# Altium footprint library IC_all.PcbLib: 21 footprints (part 1 of 2)
Each footprint in its own frame and in the unit in brackets; x right, y up, seen from the top. Pads: shape width x height; smd on the part's side, far side on the other; paste and mask are expansions set on the pad; w line width, h text height; cw(c..) or ccw(c..) is an arc to the next point about the centre after c.
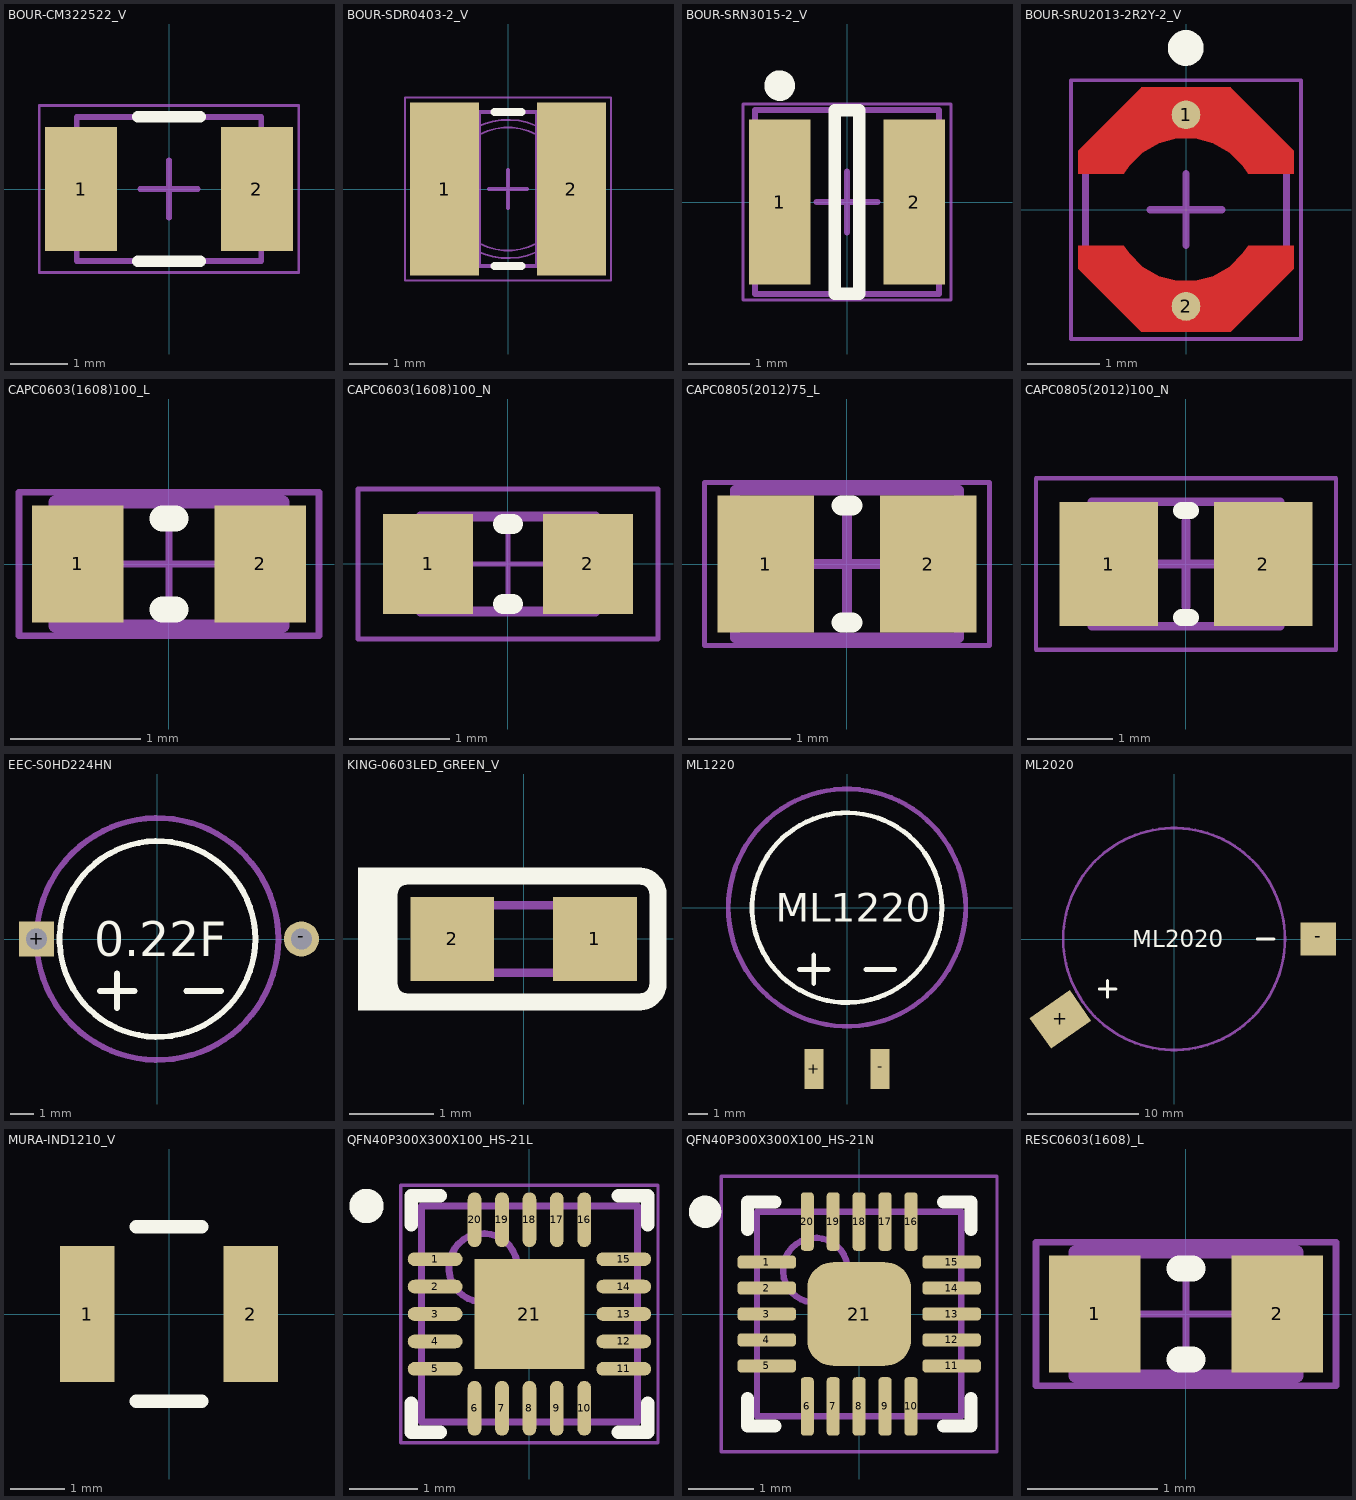
[diagram p0: the footprints below, top view; thin cyan lines are the x and y axes]

## BOUR-CM322522_V [mm] "Inductor, 2-Leads, Body 3.2x2.5mm, Pitch 3.05mm"
height 2.4
pads (2):
  rect 1.25x2.15 smd: 1(-1.525,0) 2(1.525,0)
Top Overlay:
  lines w0.2: -0.54,-1.25 0.54,-1.25 ; -0.54,1.25 0.54,1.25
Mechanical 13:
  lines w0.1: -1.6,-1.25 -1.6,1.25 1.6,1.25 1.6,-1.25 -1.6,-1.25
Mechanical 15:
  lines w0.05: -2.25,-1.45 -2.25,1.45 2.25,1.45 2.25,-1.45 -2.25,-1.45
  lines w0.1: -0.5,0 0.5,0 ; 0,-0.5 0,0.5
3D body "INDM2925X24L.step": height 2.4, standoff 0, extent -1.77,-1.35 1.77,1.35

## BOUR-SDR0403-2_V [mm] "SMD, 2-Leads, Dia 4.5mm, Height 3.5mm"
height 3.5
pads (2):
  rect 1.8x4.5 smd: 1(-1.65,0) 2(1.65,0)
Top Overlay:
  lines w0.2: -0.35,-2 0.35,-2 ; -0.35,2 0.35,2
Mechanical 13:
  circle w0.05: c0,0 r1.6
  circle w0.05: c0,0 r1.8
  lines w0.1: -0.75,-2 0.75,-2 ; -0.75,2 0.75,2 ; 0.75,-2 ccw(c0.167,0) 0.75,2 ; 0.75,-2 0.75,2 ; -0.75,-2 cw(c-0.167,0) -0.75,2 -0.75,-2
Mechanical 15:
  lines w0.05: -2.675,-2.375 -2.675,2.375 2.675,2.375 2.675,-2.375 -2.675,-2.375
  lines w0.1: -0.5,0 0.5,0 ; 0,-0.5 0,0.5
3D body: height 0.75, standoff 0.5, extent -0.75,-2 0.75,2
3D body: height 0.75, standoff 0, extent -2.251,-2 -0.749,2.001
3D body: height 0.75, standoff 0, extent 0.749,-2.001 2.251,2
3D body: height 3, standoff 0.75, extent -1.599,-1.599 1.599,1.599
3D body: height 3.5, standoff 3, extent -2.241,-2.001 2.241,2.001
3D body: height 1.5, standoff 1.25, extent -1.801,-1.801 1.8,0
3D body: height 1, standoff 0.75, extent -1.801,-1.801 1.8,0
3D body: height 2.5, standoff 2.25, extent -1.801,-1.801 1.8,0
3D body: height 2, standoff 1.75, extent -1.801,-1.801 1.8,0
3D body: height 3, standoff 2.75, extent -1.801,-1.801 1.8,0
3D body: height 1.5, standoff 1.25, extent -1.8,0 1.801,1.801
3D body: height 1, standoff 0.75, extent -1.8,0 1.801,1.801
3D body: height 2.5, standoff 2.25, extent -1.801,0 1.8,1.801
3D body: height 2, standoff 1.75, extent -1.8,0 1.801,1.801
3D body: height 3, standoff 2.75, extent -1.8,0 1.801,1.801

## BOUR-SRN3015-2_V [mm] "SMD, 2-Leads, Body 3x3mm, Height 1.5mm"
height 1.5
pads (2):
  rect 1x2.7 smd: 1(-1.1,0) 2(1.1,0)
Top Overlay:
  circle w0.25: c-1.1,1.9 r0.125
  lines w0.2: -0.2,-1.5 0.2,-1.5 0.2,1.5 -0.2,1.5 -0.2,-1.5
Mechanical 13:
  lines w0.1: -1.5,-1.5 1.5,-1.5 1.5,1.5 -1.5,1.5 -1.5,-1.5
Mechanical 15:
  lines w0.05: -1.7,-1.6 1.7,-1.6 1.7,1.6 -1.7,1.6 -1.7,-1.6
  lines w0.1: -0.5,0 0.5,0 ; 0,-0.5 0,0.5
3D body: height 1.5, standoff 0, extent -1.5,-1.5 1.5,1.5

## BOUR-SRU2013-2R2Y-2_V [mm] "Hand Drawn, 2-Leads, Body 2.8x2.8mm"
height 1.5
pads (2):
  round 0.4 smd: 1(0,1.321) 2(0,-1.346)
Top Layer:
  region: 1.5,-0.5 1.5,-0.82 0.62,-1.7 -0.62,-1.7 -1.5,-0.82 -1.5,-0.5 -0.866,-0.5 -0.793,-0.609 -0.609,-0.793 -0.383,-0.924 -0.13,-0.991 0.13,-0.991 0.383,-0.924 0.609,-0.793 0.793,-0.609 0.866,-0.5
  region: -1.5,0.5 -1.5,0.82 -0.62,1.7 0.62,1.7 1.5,0.82 1.5,0.5 0.866,0.5 0.793,0.609 0.609,0.793 0.383,0.924 0.13,0.991 -0.13,0.991 -0.383,0.924 -0.609,0.793 -0.793,0.609 -0.866,0.5
Top Overlay:
  circle w0.25: c-0.003,2.25 r0.125
Mechanical 13:
  lines w0.1: -1.4,-0.58 -1.4,0.58 -0.58,1.4 0.58,1.4 1.4,0.58 1.4,-0.58 0.58,-1.4 -0.58,-1.4 -1.4,-0.58
Mechanical 15:
  lines w0.05: -1.6,-1.8 1.6,-1.8 1.6,1.8 -1.6,1.8 -1.6,-1.8
  lines w0.1: -0.5,0 0.5,0 ; 0,-0.5 0,0.5 ; 0,-0.432 0,-0.381
3D body: height 1.5, standoff 0, extent -1.4,-1.4 1.4,1.4

## CAPC0603(1608)100_L [mm] "Chip Capacitor, Body 1.6x0.8mm, Height 1.0mm, IPC High Density"
height 1
pads (2):
  rect 0.7x0.9 smd: 1(-0.7,0) 2(0.7,0)
Top Overlay:
  lines w0.2: -0.05,-0.35 0.05,-0.35 ; -0.05,0.35 0.05,0.35
Mechanical 13:
  lines w0.1: -0.875,-0.475 -0.875,0.475 0.875,0.475 0.875,-0.475 -0.875,-0.475
Mechanical 15:
  lines w0.05: -0.475,0 0.475,0 ; 0,-0.475 0,0.475 ; -1.15,-0.55 -1.15,0.55 1.15,0.55 1.15,-0.55 -1.15,-0.55
3D body: height 1, standoff 0, extent -0.525,-0.475 0.525,0.475
3D body: height 1, standoff 0, extent -0.875,-0.475 -0.525,0.475
3D body: height 1, standoff 0, extent 0.525,-0.475 0.875,0.475

## CAPC0603(1608)100_N [mm] "Chip Capacitor, Body 1.6x0.8mm, Height 1.0mm, IPC Medium Density"
height 1
pads (2):
  rect 0.9x1 smd: 1(-0.8,0) 2(0.8,0)
Top Overlay:
  lines w0.2: -0.05,-0.4 0.05,-0.4 ; -0.05,0.4 0.05,0.4
Mechanical 13:
  lines w0.1: -0.875,-0.475 0.875,-0.475 0.875,0.475 -0.875,0.475 -0.875,-0.475
Mechanical 15:
  lines w0.05: -0.475,0 0.475,0 ; 0,-0.475 0,0.475 ; -1.5,-0.75 1.5,-0.75 1.5,0.75 -1.5,0.75 -1.5,-0.75
3D body: height 1, standoff 0, extent 0.525,-0.475 0.875,0.475
3D body: height 1, standoff 0, extent -0.875,-0.475 -0.525,0.475
3D body: height 1, standoff 0, extent -0.525,-0.475 0.525,0.475

## CAPC0805(2012)75_L [mm] "Chip Capacitor, Body 2.0x1.2mm, Height 0.75mm, IPC High Density"
height 0.75
pads (2):
  rect 0.95x1.35 smd: 1(-0.8,0) 2(0.8,0)
Top Overlay:
  lines w0.2: -0.05,-0.575 0.05,-0.575 ; -0.05,0.575 0.05,0.575
Mechanical 13:
  lines w0.1: -1.1,-0.725 -1.1,0.725 1.1,0.725 1.1,-0.725 -1.1,-0.725
Mechanical 15:
  lines w0.05: -1.4,-0.8 -1.4,0.8 1.4,0.8 1.4,-0.8 -1.4,-0.8
  lines w0.1: -0.5,0 0.5,0 ; 0,-0.5 0,0.5
3D body: height 0.75, standoff 0, extent -0.6,-0.725 0.6,0.725
3D body: height 0.75, standoff 0, extent -1.1,-0.725 -0.6,0.725
3D body: height 0.75, standoff 0, extent 0.6,-0.725 1.1,0.725

## CAPC0805(2012)100_N [mm] "Chip Capacitor, Body 2.0x1.2mm, Height 1.0mm, IPC Medium Density"
height 1
pads (2):
  rect 1.15x1.45 smd: 1(-0.9,0) 2(0.9,0)
Top Overlay:
  lines w0.2: -0.05,-0.625 0.05,-0.625 ; -0.05,0.625 0.05,0.625
Mechanical 13:
  lines w0.1: -1.1,-0.725 1.1,-0.725 1.1,0.725 -1.1,0.725 -1.1,-0.725
Mechanical 15:
  lines w0.05: -1.75,-1 1.75,-1 1.75,1 -1.75,1 -1.75,-1
  lines w0.1: -0.5,0 0.5,0 ; 0,-0.5 0,0.5
3D body: height 1, standoff 0, extent 0.6,-0.725 1.1,0.725
3D body: height 1, standoff 0, extent -1.1,-0.725 -0.6,0.725
3D body: height 1, standoff 0, extent -0.6,-0.725 0.6,0.725

## EEC-S0HD224HN [mm] "Supercap"
height 6
pads (2):
  rect 1.524x1.524 hole 0.9: +(-5.25,0)
  round 1.524 hole 0.9: -(6.25,0)
Top Overlay:
  circle w0.254: c0,0 r4.25
  lines w0.254: -2.5,-2.25 -1,-2.25 ; -1.75,-3 -1.75,-1.5 ; 1.25,-2.25 2.75,-2.25
  text "0.22F" at -2.75,-0.75 h1.5
Mechanical 1:
  circle w0.254: c0,0 r5.25
3D body: height 6.5, standoff 0.5, extent -5,-4.999 5,4.999

## KING-0603LED_GREEN_V [mm] "SMT LED, 2-Leads, Body 1.6x0.8mm (0603-Size)"
pads (2):
  rect 1x1 smd paste+0 mask+0: 1(0.85,0) 2(-0.85,0)
Top Overlay:
  rectangle: -1.782,-0.851 -1.198,-0.686
  rectangle: -1.973,-0.851 -1.516,0.851
  rectangle: -1.782,0.665 -1.132,0.851
  lines w0.203: -1.602,-0.533 ccw(c-1.386,-0.533) -1.386,-0.749 1.386,-0.749 ccw(c1.386,-0.533) 1.602,-0.533 1.602,0.533 ccw(c1.386,0.533) 1.386,0.749 -1.386,0.749 ccw(c-1.386,0.533) -1.602,0.533 -1.602,-0.533
Mechanical 7:
  lines w0.1: -0.8,-0.4 0.8,-0.4 0.8,0.4 -0.8,0.4 -0.8,-0.4
  text ".Designator" at -1.6,0.6 h0.4
  text ".Comment" at -1.6,-0.9 h0.4
3D body: height 0.5, standoff 0, extent 0.664,-0.532 1.089,0.532
3D body: height 0.5, standoff 0, extent -0.925,-0.535 -0.5,0.535
3D body: height 1.1, standoff 0, extent -0.502,-0.533 0.668,0.533
3D body: height 1, standoff 0, extent -0.301,-0.464 0.493,0.402

## ML1220 [mm] "Litium battery 3V rechargable"
height 2.7
pads (2):
  rect 1x2.1 smd: +(-1.75,-8.5) -(1.75,-8.5)
Top Overlay:
  circle w0.254: c0,0 r5
  lines w0.254: -2.5,-3.25 -1,-3.25 ; -1.75,-4 -1.75,-2.5 ; 1,-3.25 2.5,-3.25
  text "ML1220" at -3.75,-0.75 h1.5
Mechanical 1:
  circle w0.254: c0,0 r6.25
3D body: height 2.6, standoff 0, extent -6.3,-6.298 6.3,6.298

## ML2020 [mm] "Litium battery 3V rechargable"
height 2.7
pads (2):
  rect 4.4x3.4 smd rot 35: +(-10.25,-7.25)
  rect 3.2x3 smd: -(13,0)
Top Overlay:
  lines w0.254: -6.75,-4.5 -5.25,-4.5 ; -6,-5.25 -6,-3.75 ; 7.5,0 9,0
  text "ML2020" at -3.75,-0.75 h1.5
Mechanical 1:
  circle w0.254: c0,0 r10
3D body: height 2.6, standoff 0, extent -10,-9.997 10,9.997

## MURA-IND1210_V [mm] "SMT Inductor, 2 Leads, Body 3.2x2.5mm"
pads (2):
  rect 1x2.5 smd: 1(-1.5,0) 2(1.5,0)
Top Overlay:
  lines w0.254: -0.6,-1.6 0.6,-1.6 ; -0.6,1.6 0.6,1.6
3D body: height 0.64, standoff 0, extent -1.316,0.134 -0.674,0.667
3D body: height 0.64, standoff 0, extent 0.713,-0.401 1.415,0.134
3D body: height 0.38, standoff 0, extent -1.379,-0.311 -1.252,0.451
3D body: height 0.38, standoff 0, extent 1.288,-0.374 1.415,0.388
3D body: height 1.78, standoff 0, extent -1.227,-1.111 -0.782,-0.857
3D body: height 1.78, standoff 0, extent -1.227,0.87 -0.782,1.124
3D body: height 1.78, standoff 0, extent 0.831,-1.111 1.275,-0.857
3D body: height 1.78, standoff 0, extent 0.831,0.87 1.275,1.124
3D body: height 1.78, standoff 1.27, extent -1.252,-1.136 1.288,1.15
3D body: height 0.51, standoff 0, extent -1.252,-1.136 1.288,1.15
3D body: height 1.27, standoff 1.14, extent -0.945,-0.786 0.875,1.026
3D body: height 1.14, standoff 1.02, extent -0.71,-0.815 1.064,0.959
3D body: height 1.02, standoff 0.89, extent -0.763,-0.627 0.754,0.891
3D body: height 0.64, standoff 0, extent -0.85,-0.831 0.961,0.979
3D body: height 0.76, standoff 0.51, extent -0.719,-0.754 0.799,0.764
3D body: height 0.89, standoff 0.76, extent -0.825,-0.83 0.949,0.944

## QFN40P300X300X100_HS-21L [mm] "QFN, 20-Leads, Body 3.00x3.00mm, Pitch 0.40mm, Thermal Pad 1.60x1.60mm, IPC High Density"
height 1
pads (21):
  oval 0.8x0.2 smd: 1(-1.375,0.8) 2(-1.375,0.4) 3(-1.375,0) 4(-1.375,-0.4) 5(-1.375,-0.8) 11(1.375,-0.8) 12(1.375,-0.4) 13(1.375,0) 14(1.375,0.4) 15(1.375,0.8)
  oval 0.2x0.8 smd: 6(-0.8,-1.375) 7(-0.4,-1.375) 8(0,-1.375) 9(0.4,-1.375) 10(0.8,-1.375) 16(0.8,1.375) 17(0.4,1.375) 18(0,1.375) 19(-0.4,1.375) 20(-0.8,1.375)
  rect 1.6x1.6 smd: 21(0,0)
Top Overlay:
  circle w0.25: c-2.375,1.575 r0.125
  lines w0.2: -1.725,-1.3 -1.725,-1.725 -1.3,-1.725 ; -1.725,1.3 -1.725,1.725 -1.3,1.725 ; 1.3,-1.725 1.725,-1.725 1.725,-1.3 ; 1.3,1.725 1.725,1.725 1.725,1.3
Mechanical 13:
  circle w0.1: c-0.675,0.675 r0.5
  lines w0.1: -1.575,-1.575 1.575,-1.575 1.575,1.575 -1.575,1.575 -1.575,-1.575
Mechanical 15:
  lines w0.05: -1.875,-1.875 1.875,-1.875 1.875,1.875 -1.875,1.875 -1.875,-1.875
  lines w0.1: -0.5,0 0.5,0 ; 0,-0.5 0,0.5
3D body "QFN40P300X300X100_HS-21L.step": height 1, standoff 0, extent -1.625,-1.625 1.625,1.625

## QFN40P300X300X100_HS-21N [mm] "QFN, 20-Leads, Body 3.00x3.00mm, Pitch 0.40mm, Thermal Pad 1.60x1.60mm, IPC Medium Density"
height 1
pads (21):
  rrect50% 0.9x0.2 smd: 1(-1.425,0.8) 2(-1.425,0.4) 3(-1.425,0) 4(-1.425,-0.4) 5(-1.425,-0.8) 11(1.425,-0.8) 12(1.425,-0.4) 13(1.425,0) 14(1.425,0.4) 15(1.425,0.8)
  rrect50% 0.2x0.9 smd: 6(-0.8,-1.425) 7(-0.4,-1.425) 8(0,-1.425) 9(0.4,-1.425) 10(0.8,-1.425) 16(0.8,1.425) 17(0.4,1.425) 18(0,1.425) 19(-0.4,1.425) 20(-0.8,1.425)
  rrect50% 1.6x1.6 smd: 21(0,0)
Top Overlay:
  circle w0.25: c-2.375,1.575 r0.125
  lines w0.2: -1.725,-1.3 -1.725,-1.725 -1.3,-1.725 ; -1.725,1.3 -1.725,1.725 -1.3,1.725 ; 1.3,-1.725 1.725,-1.725 1.725,-1.3 ; 1.3,1.725 1.725,1.725 1.725,1.3
Mechanical 13:
  circle w0.1: c-0.675,0.675 r0.5
  lines w0.1: -1.575,-1.575 1.575,-1.575 1.575,1.575 -1.575,1.575 -1.575,-1.575
Mechanical 15:
  lines w0.05: -2.125,-2.125 2.125,-2.125 2.125,2.125 -2.125,2.125 -2.125,-2.125
  lines w0.1: -0.5,0 0.5,0 ; 0,-0.5 0,0.5
3D body "QFN40P300X300X100_HS-21N.step": height 1, standoff 0, extent -1.625,-1.625 1.625,1.625

## RESC0603(1608)_L [mm] "Chip Resistor, Body 1.6x0.8mm, IPC High Density"
height 0.6
pads (2):
  rect 0.7x0.9 smd: 1(-0.7,0) 2(0.7,0)
Top Overlay:
  lines w0.2: -0.05,-0.35 0.05,-0.35 ; -0.05,0.35 0.05,0.35
Mechanical 13:
  lines w0.1: -0.85,-0.475 0.85,-0.475 0.85,0.475 -0.85,0.475 -0.85,-0.475
Mechanical 15:
  lines w0.05: -0.475,0 0.475,0 ; 0,-0.475 0,0.475 ; -1.15,-0.55 1.15,-0.55 1.15,0.55 -1.15,0.55 -1.15,-0.55
3D body: height 0.6, standoff 0, extent -0.849,-0.474 -0.58,0.475
3D body: height 0.6, standoff 0, extent -0.58,-0.474 0.581,0.475
3D body: height 0.6, standoff 0, extent 0.581,-0.474 0.85,0.475